# Altium schematic symbol library DC309A.SCHLIB: 110 symbols (part 2 of 3)
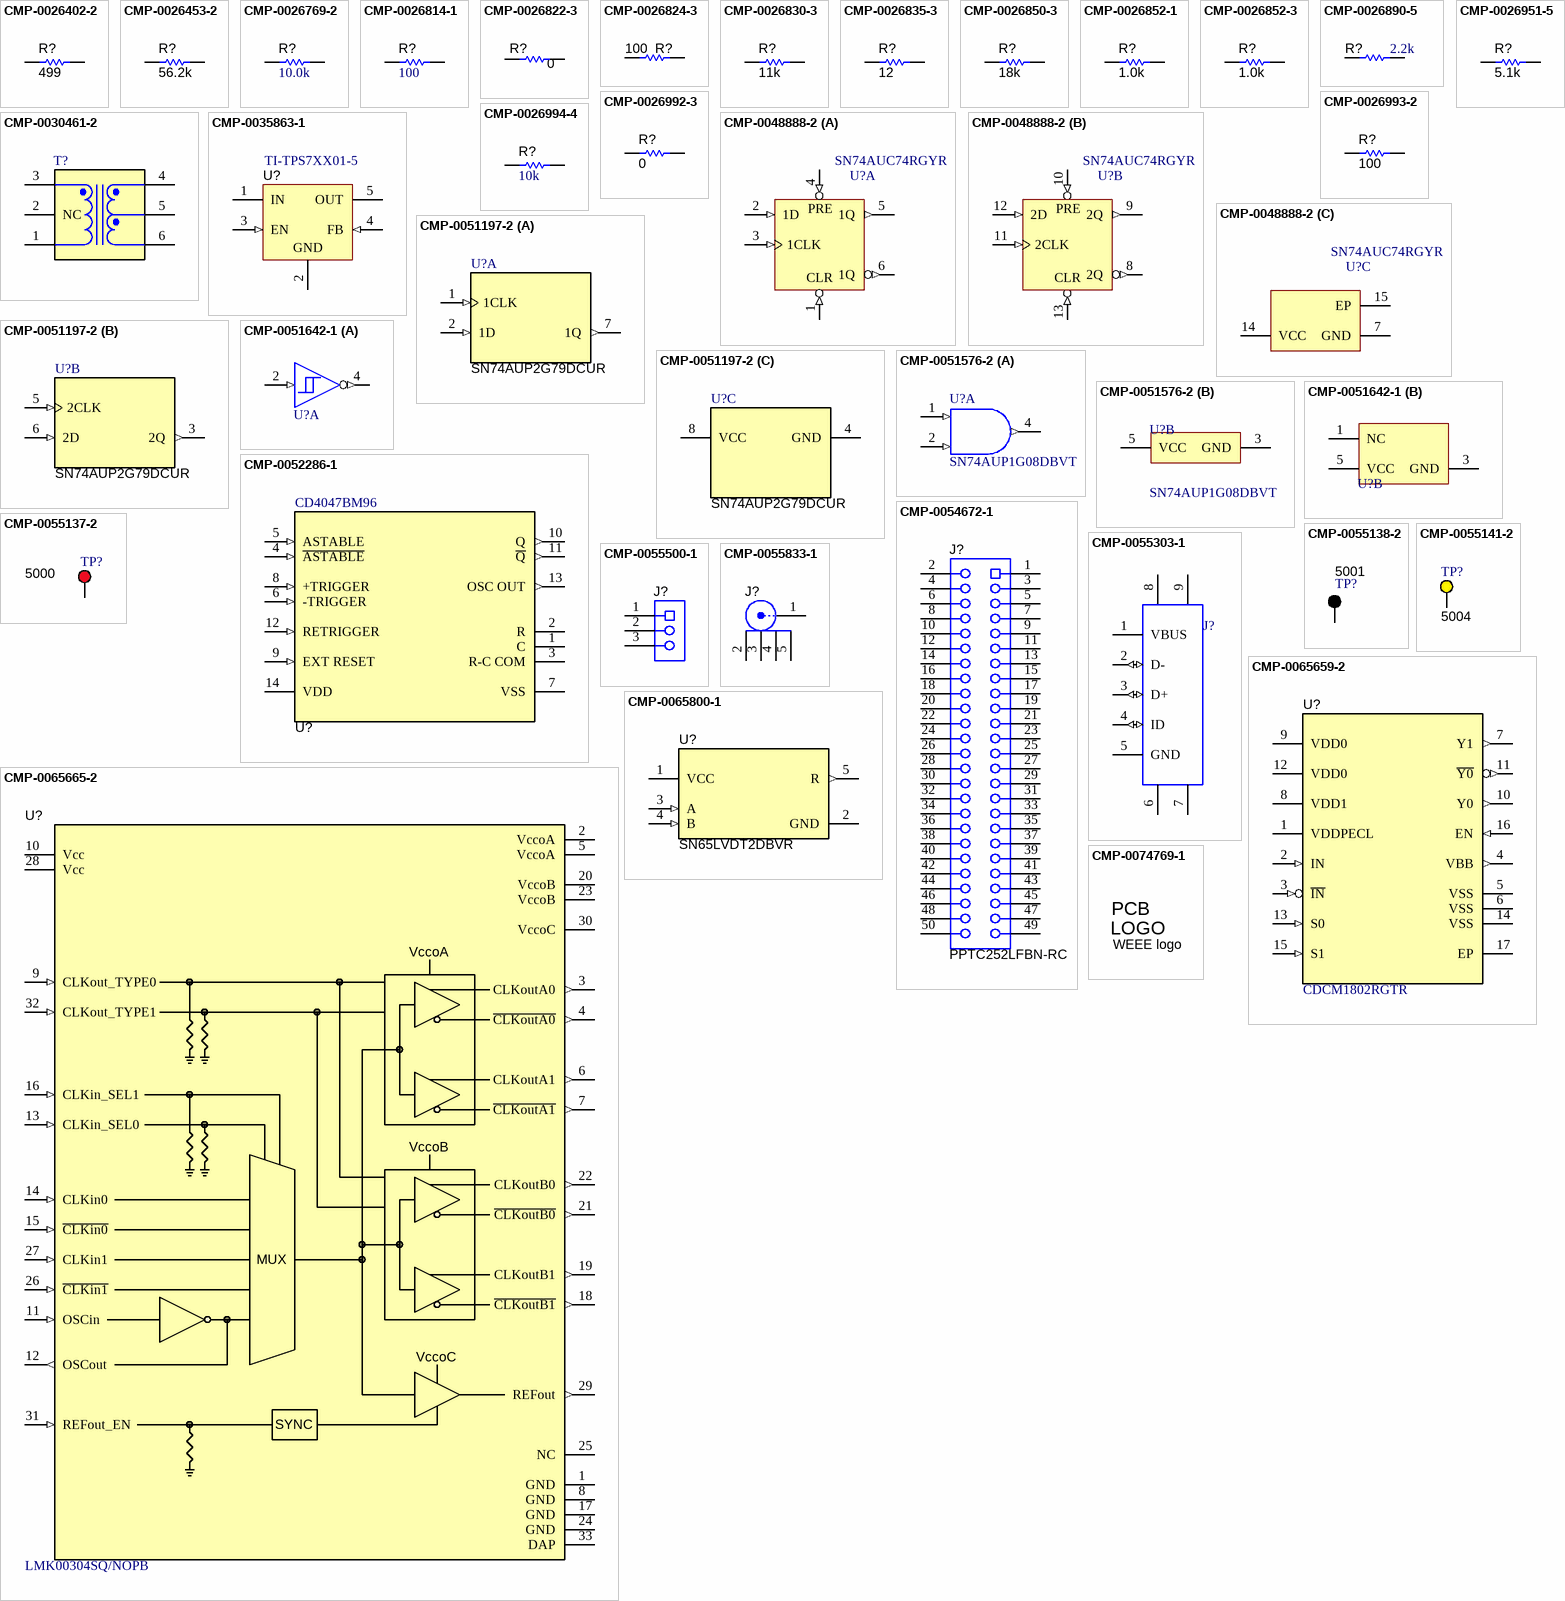
[diagram p5: symbols CMP-0026402-2 to CMP-0074769-1]

## CMP-0026850-3
designator R?, comment ValueDisplayed: 18k  (hidden comment: CRCW040218K0JNED)
RES, 18 k, 5%, 0.063 W, AEC-Q200 Grade 0, 0402; Manufacturer: Vishay-Dale; Power_W: 63mW; TempCo: 200 ppm/C; Value_Code: 18k0; Value: 18k; EIA_Code: E24; SizeX_mm: 1; SizeY_mm: 0.5; SizeZ_mm: 0.6; Value2: 0.063W; CompType: Resistor; AEC Qualified: Y; VDC_V: 50V; AEC Category: Q200; AEC Grade: 0; Supplier Part Number 2: 59M6707; Supplier 2: Newark; Supplier Part Number 3: 71-CRCW0402J-18K-E3; Supplier 3: Mouser; RoHS: E; Value1: 5%; MountType: SMT; Supplier 1: Digi-Key; PackageReference: 0402; Tolerance_%: 5%; Res_ohm: 18k; SizeArea_mm2: 0.5; PartNumber: CRCW040218K0JNED; ComponentLink1Description: Datasheet link; Supplier Part Number 1: 541-18KJCT-ND; Technology: Thick Film; ComponentLink1URL: http://www.vishay.com/docs/20035/dcrcwe3.pdf
footprint 0402 (0402 from SM-752 data)
footprint 0402S (Based on C0402S footprint from PADS legacy)
footprint 0402L (0402 from SM-752 data)
footprint 0402M (0402 from SM-752 data)
pins: 1, 2

## CMP-0026852-1
designator R?, comment ValueDisplayed: 1.0k  (hidden comment: CRCW04021K00JNED)
RES, 1.0 k, 5%, 0.063 W, 0402; Manufacturer: Vishay-Dale; Power_W: 63mW; TempCo: 200 ppm/C; Value_Code: 1k00; U/M: EA; Value: 1.0k; EIA_Code: E24; Res_ohm: 1k; SizeX_mm: 1; SizeY_mm: 0.5; SizeZ_mm: 0.6; Value2: 0.063W; CompType: Resistor; VDC_V: 50V; AEC Category: Q200; ComponentLink1URL: http://www.vishay.com/docs/20035/dcrcwe3.pdf; Supplier Part Number 2: 59M6691; Publisher: Texas Instruments; Supplier 2: Newark; Supplier Part Number 3: 71-CRCW0402J-1.0K-E3; Supplier 3: Mouser; Published: 2008-06-26; RoHS: Y; Value1: 5%; MountType: SMT; Supplier 1: Digi-Key; PackageReference: 0402; Tolerance_%: 5%; SizeArea_mm2: 0.5; LatestRevisionDate: 2017-03-09; PartNumber: CRCW04021K00JNED; AEC Qualified: ?; ComponentLink1Description: Datasheet link; Supplier Part Number 1: 541-1.0KJCT-ND; Technology: Thick Film
footprint 0402 (0402 from SM-752 data)
footprint 0402S (Based on C0402S footprint from PADS legacy)
footprint 0402L (0402 from SM-752 data)
footprint 0402M (0402 from SM-752 data)
pins: 1, 2

## CMP-0026852-3
designator R?, comment ValueDisplayed: 1.0k  (hidden comment: Resistor)
RES, 1.0 k, 5%, 0.063 W, AEC-Q200 Grade 0, 0402; PartNumber: CRCW04021K00JNED; Manufacturer: Vishay-Dale; Value: 1.0k; Res_ohm: 1k; Value_Code: 1k00; Power_W: 63mW; Value2: 0.063W; VDC_V: 50V; TempCo: 200 ppm/C; SizeArea_mm2: 0.5; SizeX_mm: 1; SizeZ_mm: 0.6; EIA_Code: E24; AEC Category: Q200; AEC Qualified: Y; AEC Grade: 0; CompType: Resistor; PackageReference: 0402; RoHS: E; Tolerance_%: 5%; Value1: 5%; MountType: SMT; Technology: Thick Film; SizeY_mm: 0.5; ComponentLink1Description: Datasheet link; ComponentLink1URL: http://www.vishay.com/docs/20035/dcrcwe3.pdf; Supplier 1: Digi-Key; Supplier Part Number 1: 541-1.0KJCT-ND; Supplier 2: Newark; Supplier Part Number 2: 59M6691; Supplier 3: Mouser; Supplier Part Number 3: 71-CRCW0402J-1.0K-E3
footprint 0402 (0402 from SM-752 data)
footprint 0402S (Based on C0402S footprint from PADS legacy)
footprint 0402L (0402 from SM-752 data)
footprint 0402M (0402 from SM-752 data)
pins: 1, 2

## CMP-0026890-5
designator R?, comment ValueDisplayed: 2.2k  (hidden comment: CRCW04022K20JNED)
RES, 2.2 k, 5%, 0.063 W, AEC-Q200 Grade 0, 0402; Manufacturer: Vishay-Dale; Power_W: 63mW; TempCo: 200 ppm/C; Value_Code: 2k20; Value: 2.2k; EIA_Code: E24; SizeX_mm: 1; SizeY_mm: 0.5; SizeZ_mm: 0.6; Value2: 0.063W; CompType: Resistor; AEC Qualified: Y; VDC_V: 50V; AEC Category: Q200; AEC Grade: 0; Supplier Part Number 2: 59M6710; Supplier 2: Newark; Supplier Part Number 3: 71-CRCW0402J-2.2K-E3; Supplier 3: Mouser; RoHS: E; Value1: 5%; MountType: SMT; Supplier 1: Digi-Key; PackageReference: 0402; Tolerance_%: 5%; Res_ohm: 2.2k; SizeArea_mm2: 0.5; PartNumber: CRCW04022K20JNED; ComponentLink1Description: Datasheet link; Supplier Part Number 1: 541-2.2KJCT-ND; Technology: Thick Film; ComponentLink1URL: http://www.vishay.com/docs/20035/dcrcwe3.pdf
footprint 0402 (0402 from SM-752 data)
footprint 0402S (Based on C0402S footprint from PADS legacy)
footprint 0402L (0402 from SM-752 data)
footprint 0402M (0402 from SM-752 data)
pins: 1, 2

## CMP-0026951-5
designator R?  ValueDisplayed: 5.1k  (hidden comment: CMP-0026951-5)
RES, 5.1 k, 5%, 0.063 W, AEC-Q200 Grade 0, 0402; PartNumber: CRCW04025K10JNED; Manufacturer: Vishay-Dale; CompType: Resistor; Value: 5.1k; Value_Code: 5k10; Power_W: 63mW; Value2: 0.063W; VDC_V: 50V; TempCo: 200 ppm/C; SizeArea_mm2: 0.5; SizeX_mm: 1; SizeZ_mm: 0.6; EIA_Code: E24; AEC Category: Q200; AEC Qualified: Y; AEC Grade: 0; PackageReference: 0402; RoHS: E; Res_ohm: 5.1k; Tolerance_%: 5%; Value1: 5%; MountType: SMT; Technology: Thick Film; SizeY_mm: 0.5; ComponentLink1Description: Datasheet link; ComponentLink1URL: http://www.vishay.com/docs/20035/dcrcwe3.pdf; Supplier 1: Digi-Key; Supplier Part Number 1: 541-5.1KJCT-ND; Supplier 2: Newark; Supplier Part Number 2: 72M6798; Supplier 3: Mouser; Supplier Part Number 3: 71-CRCW0402J-5.1K-E3
footprint 0402 (0402 from SM-752 data)
footprint 0402S (Based on C0402S footprint from PADS legacy)
footprint 0402L (0402 from SM-752 data)
footprint 0402M (0402 from SM-752 data)
pins: 1, 2

## CMP-0026992-3
designator R?, comment Res_ohm: 0  (hidden comment: Resistor)
RES, 0, 5%, 0.1 W, AEC-Q200 Grade 0, 0402; PartNumber: ERJ-2GE0R00X; Manufacturer: Panasonic; Value_Code: 0000; Power_W: 100mW; Value2: 0.1W; VDC_V: 50V; TempCo: 600 ppm/C; SizeArea_mm2: 0.5; SizeX_mm: 1; SizeZ_mm: 0.6; EIA_Code: E24; AEC Category: Q200; AEC Qualified: Y; SizeAreaWB_mm2: 3; CompType: Resistor; PackageReference: 0402; RoHS: Y; Tolerance_%: 5%; Value1: 5%; MountType: SMT; Technology: Thick Film; SizeY_mm: 0.5; ComponentLink1Description: Datasheet link; ComponentLink1URL: https://industrial.panasonic.com/cdbs/www-data/pdf/RDA0000/AOA0000C301.pdf; Supplier 1: Digi-Key; Supplier Part Number 1: P0.0JCT-ND; Supplier 2: Newark; Supplier Part Number 2: 65T8307; Supplier 3: Mouser; Supplier Part Number 3: 667-ERJ-2GE0R00X; AEC Grade: 0; ValueDisplayed: 0
footprint 0402 (0402 from SM-752 data)
footprint 0402S (Based on C0402S footprint from PADS legacy)
footprint 0402L (0402 from SM-752 data)
footprint 0402M (0402 from SM-752 data)
pins: 1, 2

## CMP-0026993-2
designator R?, comment ValueDisplayed: 100  (hidden comment: Resistor)
RES, 100, 5%, 0.1 W, AEC-Q200 Grade 0, 0402; PartNumber: ERJ-2GEJ101X; Manufacturer: Panasonic; Value: 100; Value_Code: 100R; Power_W: 100mW; Value2: 0.1W; TempCo: 200 ppm/C; SizeArea_mm2: 0.5; SizeX_mm: 1; SizeZ_mm: 0.6; EIA_Code: E24; U/M: EA; AEC Category: Q200; AEC Qualified: Y; AEC Grade: 0; CompType: Resistor; PackageReference: 0402; RoHS: Y; Res_ohm: 100; Tolerance_%: 5%; Value1: 5%; MountType: SMT; Technology: Thick Film; SizeY_mm: 0.5; Published: 2008-06-26; Publisher: Texas Instruments; LatestRevisionDate: 2017-03-09; ComponentLink1Description: Datasheet link; ComponentLink1URL: https://industrial.panasonic.com/cdbs/www-data/pdf/RDA0000/AOA0000C84.pdf; Supplier 1: Digi-Key; Supplier Part Number 1: P100JCT-ND; Supplier 2: Newark; Supplier Part Number 2: 65T8246; Supplier 3: Farnell; Supplier Part Number 3: 2059210
footprint 0402 (0402 from SM-752 data)
footprint 0402S (Based on C0402S footprint from PADS legacy)
footprint 0402L (0402 from SM-752 data)
footprint 0402M (0402 from SM-752 data)
pins: 1, 2

## CMP-0026994-4
designator R?, comment ValueDisplayed: 10k  (hidden comment: ERJ-2GEJ103X)
RES, 10 k, 5%, 0.1 W, AEC-Q200 Grade 0, 0402; Manufacturer: Panasonic; Power_W: 100mW; TempCo: 200 ppm/C; Value_Code: 10k0; U/M: EA; Value: 10k; EIA_Code: E24; SizeX_mm: 1; SizeY_mm: 0.5; SizeZ_mm: 0.6; Value2: 0.1W; CompType: Resistor; AEC Qualified: Y; VDC_V: 50V; AEC Grade: 0; AEC Category: Q200; ComponentLink1URL: http://industrial.panasonic.com/lecs/www-data/pdf/AOA0000/AOA0000CE2.pdf; Supplier Part Number 2: 65T8248; Publisher: Texas Instruments; Supplier 2: Newark; Supplier Part Number 3: 667-ERJ-2GEJ103X; Supplier 3: Mouser; Published: 2008-06-26; RoHS: Y; Value1: 5%; MountType: SMT; Supplier 1: Digi-Key; PackageReference: 0402; Tolerance_%: 5%; Res_ohm: 10k; SizeArea_mm2: 0.5; LatestRevisionDate: 2017-03-09; PartNumber: ERJ-2GEJ103X; ComponentLink1Description: Datasheet link; Supplier Part Number 1: P10KJCT-ND; Technology: Thick Film
footprint 0402 (0402 from SM-752 data)
footprint 0402S (Based on C0402S footprint from PADS legacy)
footprint 0402L (0402 from SM-752 data)
footprint 0402M (0402 from SM-752 data)
pins: 1, 2

## CMP-0030461-2
designator T?, comment MNC_ADT4-1WT+  (value not drawn)
RF Transformer, 50 ohm, 2 to 775 MHz, SMT; Manufacturer: Minicircuits; Green_Lifecycle: Not Set; Green_REACh: Incomplete; PartNumber: ADT4-1WT+; MountType: SMT; PackageReference: CD542; RoHS: Y; ComponentLink1URL: http://www.minicircuits.com/pdfs/ADT4-1WT.pdf; ComponentLink1Description: Datasheet URL; CompType: Transformer; Publisher: Texas Instruments; LatestRevisionDate: 2017-05-09; Green_EU RoHS-2: Incomplete; Green_EU RoHS: Incomplete
footprint MNC_CD542 (Mini-Circuits recommended land pattern 98-CD.doc rev K 11/06/06)
pins: 1 (power), 2 NC, 3 (power), 4 (power), 5 (power), 6 (power)
1 alternate drawing of the same symbol

## CMP-0035863-1
designator U?, comment TI-TPS7XX01-5
Single Output High PSRR LDO, 200 mA, Adjustable 1.2 to 6.5 V Output, 2.7 to 6.5 V Input, with Low IQ, 5-pin SOT (DDC), -40 to 85 degC, Green (RoHS & no Sb/Br); Manufacturer: Texas Instruments; PartNumber: TPS79901DDCR; Accuracy(%): 2; Iout(Max)(A): 0.2; Iq(Typ)(mA): 0.04; Rating: Catalog; SubFamily: Single Channel LDO; Vdo(Typ)(mV): 90; Vin(Max)(V): 6.5; Vin(Min)(V): 2.7; Vout Adj(Min)(V): 1.2; DatasheetVersion: SBVS056J; PackageVersion: 4204403-2/E; PackageReference: DDC0005A; PackageDescription: 5-Pin Plastic Small Outline, Body 2.9 x 1.6 mm, 0.95 mm Pitch; Eco-Plan: Green (RoHS & no Sb/Br); Vout Adj(Max)(V): 6.5; Code_JEDEC: MO-193; ComponentLink1Description: Manufacturer URL; ComponentLink1URL: http://www.ti.com/; ComponentLink2Description: Datasheet; ComponentLink2URL: http://www.ti.com/general/docs/lit/getliterature.tsp?genericPartNumber=TPS79901&fileType=pdf; ComponentLink3Description: Package Specification; ComponentLink3URL: http://www.ti.com/litv/pdf/mpds123d; ComponentLink4Description: URL Link1; ComponentLink4URL: Samples URL:http://www.ti.com/product/tps79901#samples; Mounting Technology: Surface Mount
footprint DDC0005A_N
pins: 1 IN (power) "Input pin. A small capacitor is needed from this pin to ground to assure stability. Typical input capacitor = 1.0uF. Both input and output capacitor grounds should be tied back to the IC ground with no significant impedance (See Datasheet)", 2 GND (power) "Ground pin.", 3 EN (in) "Driving the enable pin (EN) over 1.2V turns on the regulator. Driving this pin below 0.4V puts the regulator into shutdown mode, reducing operating current to 18nA typical.", 4 FB (in) "Feedback pin (FB) for adjustable versions", 5 OUT (power) "Regulated output voltage pin. A small 1-uF ceramic capacitor is needed from this pin to ground to assure stability.See Input and Output Capacitor Requirements in the Application Information section for more details."

## CMP-0048888-2
designator U?, comment SN74AUC74RGYR
Dual Positive-Edge-Triggered D-Type Flip-Flops with Clear and Preset, RGY0014A, LARGE T&R; Manufacturer: Texas Instruments; Output Type: CMOS; Bits(#): 2; Technology Family: AUC; Schmitt Trigger: No; VCC(Max)(V): 2.7; Rating: Catalog; Output Drive (IOL/IOH)(Max)(mA): 9/-9; ICC @ Nom Voltage(Max)(mA): 0.01; VCC(Min)(V): 0.8; F @ Nom Voltage(Max)(Mhz): 250; Voltage(Nom)(V): 0.8,1.2,1.5,1.8,2.5; tpd @ Nom Voltage(Max)(ns): 9.5,4,2.5,2.1,1.4; Output Logic: Inverted,Non-inverted; Input Type: CMOS; Code_JEDEC: MO-241; 3-State Output: No; Operating Temperature Range(C): -40 to 85; PackageReference: RGY0014A; DatasheetVersion: SCES483A; Generic Part Number: SN74AUC74; PartNumber: SN74AUC74RGYR; PartId: 1
footprint RGY0014A (QFN, 14-Leads, Body 3.5x3.5mm, Pitch 0.5mm, Thermal Pad 2.05x2.05mm, TI Recommended)
part A pins: 1 1~{CLR} (in), 2 1D (in), 3 1CLK (in), 4 1~{PRE} (in), 5 1Q (out), 6 1Q (out)
part B pins: 8 2Q (out), 9 2Q (out), 10 2~{PRE} (in), 11 2CLK (in), 12 2D (in), 13 2~{CLR} (in)
part C pins: 7 GND (power), 14 VCC (power) "Supply voltage input", 15 EP
part A text: PRE; CLR
part B text: PRE; CLR

## CMP-0051197-2
designator U?, comment SN74AUP2G79DCUR
Low-Power Dual Positive-Edge-Triggered D-Type Flip-Flop, DCU0008A (VSSOP-8); Manufacturer: Texas Instruments; ICC @ Nom Voltage(Max)(mA): 0.0009; 3-State Output: No; Input Type: CMOS; Rating: Catalog; Output Drive (IOL/IOH)(Max)(mA): 20/-20; VCC(Max)(V): 3.6; Bits(#): 2; Technology Family: AUP; Logic: True; Voltage(Nom)(V): 0.8,1.2,1.5,1.8,2.5,3.3; VCC(Min)(V): 0.8; tpd @ Nom Voltage(Max)(ns): 27.2,17.3,13.3,11.3,7.8,6.3; F @ Nom Voltage(Max)(Mhz): 100; AEC Category: Q200; AEC Qualified: N; CompType: IC; SizeAreaWB_mm2: 12.6; SizeArea_mm2: 6.4; SizeX_mm: 3.2; SizeY_mm: 2.0; SizeZ_mm: 0.9; Generic Part Number: SN74AUP2G79; PackageReference: DCU0008A; Schmitt Trigger: No; Output Type: CMOS; ComponentLink1Description: Datasheet Link; ComponentLink1URL: http://www.ti.com/lit/ds/symlink/sn74aup2g79.pdf; ComponentLink2Description: Product Folder; ComponentLink2URL: http://www.ti.com/product/sn74aup2g79; ComponentLink3Description: Online Datasheet; ComponentLink3URL: http://www.ti.com/product/sn74aup2g79/datasheet; MountType: SMT; Operating Temperature Range: -40 to 85 C; PackageDescription: VSSOP-8; PartNumber: SN74AUP2G79DCUR; PartId: 2
footprint DCU0008A_N (TSSOP, 8-Leads, Body 2x2.3mm, Pitch 0.5mm, IPC Medium Density)
footprint DCU0008A_M (TSSOP, 8-Leads, Body 2x2.3mm, Pitch 0.5mm, IPC Low Density)
footprint DCU0008A_L (TSSOP, 8-Leads, Body 2x2.3mm, Pitch 0.5mm, IPC High Density)
part A pins: 1 1CLK (in), 2 1D (in), 7 1Q (out)
part B pins: 3 2Q (out), 5 2CLK (in), 6 2D (in)
part C pins: 4 GND (power), 8 VCC (power)

## CMP-0051576-2
designator U?, comment SN74AUP1G08DBVT
Low-Power Single 2-Input Positive-AND Gate, DBV0005A (SOT-23-5); Manufacturer: Texas Instruments; 3-State Output: No; Output Type: CMOS; F @ Nom Voltage(Max)(Mhz): 100; Rating: Catalog; Voltage(Nom)(V): 0.8,1.2,1.5,1.8,2.5,3.3; Logic: True; Output Drive (IOL/IOH)(Max)(mA): 20/-20; tpd @ Nom Voltage(Max)(ns): 32.8,20.9,14.2,11,7.6,6.2; Bits(#): 1; ICC @ Nom Voltage(Max)(mA): 0.0009; Gate Type: AND; VCC(Max)(V): 3.6; VCC(Min)(V): 0.8; AEC Category: Q200; AEC Qualified: N; CompType: IC; SizeAreaWB_mm2: 14.82; SizeArea_mm2: 8.12; SizeX_mm: 2.8; SizeY_mm: 2.9; SizeZ_mm: 1.45; PackageReference: DBV0005A; Generic Part Number: SN74AUP1G08; Input Type: CMOS; Schmitt Trigger: No; ComponentLink1Description: Datasheet Link; ComponentLink1URL: http://www.ti.com/lit/ds/symlink/sn74aup1g08.pdf; ComponentLink2Description: Product Folder; ComponentLink2URL: http://www.ti.com/product/sn74aup1g08; ComponentLink3Description: Online Datasheet; ComponentLink3URL: http://www.ti.com/product/sn74aup1g08/datasheet; MountType: SMT; Operating Temperature Range: -40 to 85 C; PackageDescription: SOT-23-5; PartNumber: SN74AUP1G08DBVT; PartId: 1
footprint DBV0005A_N (SOT23, 5-Leads, Body 2.9x1.6mm, Pitch 0.95mm, Lead Span 2.8mm, IPC Medium Density)
footprint DBV0005A_M (SOT23, 5-Leads, Body 2.9x1.6mm, Pitch 0.95mm, Lead Span 2.8mm, IPC Low Density)
footprint DBV0005A_L (SOT23, 5-Leads, Body 2.9x1.6mm, Pitch 0.95mm, Lead Span 2.8mm, IPC High Density)
part A pins: 1 A (in) "Input A", 2 B (in) "Input B", 4 Y (out) "Output Y"
part B pins: 3 GND (power) "Ground Pin", 5 VCC (power) "Power Pin"

## CMP-0051642-1
designator U?, comment SN74LVC1G14DBVR  (value not drawn)
Single Schmitt-Trigger Inverter, DBV0005A, LARGE T&R; Manufacturer: Texas Instruments; Input Type: CMOS/TTL; Output Drive (IOL/IOH)(Max)(mA): 32/-32; VCC(Min)(V): 1.65; 3-State Output: No; Schmitt Trigger: Yes; tpd @ Nom Voltage(Max)(ns): 11,6.5,5.5,5; VCC(Max)(V): 5.5; Output Type: CMOS; Bits(#): 1; Voltage(Nom)(V): 1.8,2.5,3.3,5; Sub-Family: Inverting Buffer/Driver; Logic: Inverting; Technology Family: LVC; F @ Nom Voltage(Max)(Mhz): 150; Rating: Catalog; ICC @ Nom Voltage(Max)(mA): 0.01; DatasheetVersion: SCES218W; PackageReference: DBV0005A; Generic Part Number: SN74LVC1G14; Operating Temperature Range(C): -40 to 125,-40 to 85; PartId: 1
footprint DBV0005A_N (SOT23, 5-Leads, Body 2.9x1.6mm, Pitch 0.95mm, Lead Span 2.8mm, IPC Medium Density)
footprint DBV0005A_M (SOT23, 5-Leads, Body 2.9x1.6mm, Pitch 0.95mm, Lead Span 2.8mm, IPC Low Density)
footprint DBV0005A_L (SOT23, 5-Leads, Body 2.9x1.6mm, Pitch 0.95mm, Lead Span 2.8mm, IPC High Density)
part A pins: 2 A (in) "Input A", 4 Y (out) "Output Y"
part B pins: 1 NC "Ground", 3 GND (power) "Ground Pin", 5 VCC (power) "Power Pin"

## CMP-0052286-1
designator U?, comment CD4047BM96
CMOS Low-Power Monostable/Astable Multivibrator, D0014A, LARGE T&R; Manufacturer: Texas Instruments; VCC(Max)(V): 18; F @ Nom Voltage(Max)(Mhz): 8; tpd @ Nom Voltage(Max)(ns): 450; Rating: Military; Technology Family: CD4000; Output Drive (IOL/IOH)(Max)(mA): 4/-4; Bits(#): 1; VCC(Min)(V): 3; ICC @ Nom Voltage(Max)(mA): 0.06; Voltage(Nom)(V): 10; Generic Part Number: CD4047B; DatasheetVersion: SCHS044C; Output Type: CMOS; Code_JEDEC: MS-012; Input Type: CMOS; Operating Temperature Range(C): -55 to 125; PackageReference: D0014A
footprint D0014A_N (SOIC, 14-Leads, Body 8.7x3.9mm, Pitch 1.27mm, IPC Medium Density)
footprint D0014A_M (SOIC, 14-Leads, Body 8.7x3.9mm, Pitch 1.27mm, IPC Low Density)
footprint D0014A_L (SOIC, 14-Leads, Body 8.7x3.9mm, Pitch 1.27mm, IPC High Density)
pins: 1 C, 2 R, 3 R-C COM, 4 ~{ASTABLE} (in), 5 ASTABLE (in), 6 -TRIGGER (in), 7 VSS (power), 8 +TRIGGER (in), 9 EXT RESET (in), 10 Q (out), 11 ~{Q} (out), 12 RETRIGGER (in), 13 OSC OUT (out), 14 VDD (power)

## CMP-0054672-1
designator J?, comment PPTC252LFBN-RC
Receptacle, 2.54mm, 25x2, Tin, TH; Manufacturer: Sullins Connector Solutions; CNHeader: FALSE; Current_A: 3A; Gender: Female; Voltage_V: 250V; CompType: Socket Strip; Row_Count: 2; RowSpacing_mm: 2.54; CT: TRUE; Cert_UL: Y; ComponentLink1URL: http://www.sullinscorp.com/drawings/78_P(N)PxCxxxLFBN-RC,_10492-H.pdf; Publisher: Texas Instruments; Color: Black; RoHS: Y; MountType: TH; Supplier 1: Digi-Key; PackageReference: Receptacle, 2.54mm, 25x2, TH; PinCount: 50; LatestRevisionDate: 26/05/2017; PartNumber: PPTC252LFBN-RC; Orientation: Vertical; ComponentLink1Description: Datasheet URL; Supplier Part Number 1: S7093-ND; Pitch_mm: 2.54; ContactFinish: Tin
footprint Sullins_xPxC252LFBN (Receptacle, 2.54mm, 25x2, TH)
pins: 1, 2, 3, 4, 5, 6, 7, 8, 9, 10, 11, 12, 13, 14, 15, 16, 17, 18, 19, 20, 21, 22, 23, 24, 25, 26, 27, 28, 29, 30, 31, 32, 33, 34, 35, 36, 37, 38, 39, 40, 41, 42, 43, 44, 45, 46, 47, 48, 49, 50

## CMP-0055137-2
designator TP?, comment 5000
Test Point, Miniature, Red, TH; Manufacturer: Keystone Electronics; ContactFinish: Silver; CNHeader: FALSE; CT: TRUE; Green_Lifecycle: Active; Green_REACh: Passed; PackageReference: Red Miniature Testpoint; CompType: Test Point; Publisher: Texas Instruments; LatestRevisionDate: 26/05/2017; PartNumber: 5000; RoHS: Y; MountType: TH; ComponentLink1Description: Datasheet URL; ComponentLink1URL: http://www.keyelco.com/userAssets/file/M60-2p60.pdf; Color: Red; Supplier 1: Digi-Key; Supplier Part Number 1: 36-5000-ND; Supplier 2: Mouser; Supplier Part Number 2: 534-5000; Green_EU RoHS-2: Incomplete; Green_EU RoHS: Passed
footprint Keystone5000 (For Keystone 500x miniature loop terminals)
pins: 1

## CMP-0055138-2
designator TP?, comment 5001
Test Point, Miniature, Black, TH; Manufacturer: Keystone Electronics; ContactFinish: Silver; CNHeader: FALSE; CT: TRUE; Green_Lifecycle: Active; Green_REACh: Passed; PartNumber: 5001; PackageReference: Black Miniature Testpoint; CompType: Test Point; RoHS: Y; MountType: TH; ComponentLink1Description: Datasheet URL; ComponentLink1URL: http://www.keyelco.com/userAssets/file/M60-2p60.pdf; Color: Black; Publisher: Texas Instruments; LatestRevisionDate: 26/05/2017; Supplier 1: Digi-Key; Supplier Part Number 1: 36-5001-ND; Supplier 2: Mouser; Supplier Part Number 2: 534-5001; Green_EU RoHS-2: Incomplete; Green_EU RoHS: Passed
footprint Keystone5001 (For Keystone 500x miniature loop terminals)
pins: 1

## CMP-0055141-2
designator TP?, comment 5004
Test Point, Miniature, Yellow, TH; Manufacturer: Keystone Electronics; CT: TRUE; ContactFinish: Silver; Green_Lifecycle: Active; CNHeader: FALSE; Green_REACh: Passed; Supplier 2: Mouser; RoHS: Y; Publisher: Texas Instruments; PackageReference: Yellow Miniature Testpoint; CompType: Test Point; Green_EU RoHS: Passed; Color: Yellow; PartNumber: 5004; Green_EU RoHS-2: Incomplete; LatestRevisionDate: 26/05/2017; Supplier 1: Digi-Key; Supplier Part Number 1: 36-5004-ND; Supplier Part Number 2: 534-5004; MountType: TH; ComponentLink1URL: http://www.keyelco.com/userAssets/file/M60-2p60.pdf; ComponentLink1Description: Datasheet URL
footprint Keystone5004 (For Keystone 500x miniature loop terminals)
pins: 1

## CMP-0055303-1
designator J?, comment CONN_USB_MINI-AB_4Shld  (value not drawn)
Connector, Receptacle, USB - mini AB, R/A, SMD; PartNumber: 67803-8020; Manufacturer: Molex; CNHeader: FALSE; CT: TRUE; Gender: Female; PackageReference: Receptacle, 5-Leads, Body 9.9x9mm, R/A; CompType: USB; RoHS: Y; MountType: SMT; ComponentLink1Description: Datasheet URL; ComponentLink1URL: http://www.molex.com/pdm_docs/sd/678038020_sd.pdf; Publisher: Texas Instruments; LatestRevisionDate: 26/05/2017; Supplier 1: Digi-Key; Supplier Part Number 1: WM17148CT-ND; Supplier 2: Newark; Supplier Part Number 2: 06X9412; Supplier 3: Mouser; Supplier Part Number 3: 538-67803-8020
footprint Molex_67803-8020 (SMD, 5-Leads, Body 9.9x9mm, R/A)
pins: 1 VBUS, 2 D- (io), 3 D+ (io), 4 ID (io), 5 GND, 6, 7, 8 (power), 9 (power)

## CMP-0055500-1
designator J?, comment 1725669  (value not drawn)
Terminal Block, 3x1, 2.54 mm, TH; Manufacturer: Phoenix Contact; CNHeader: FALSE; Green_Lifecycle: Not Set; Green_REACh: Incomplete; CT: TRUE; ComponentLink1URL: https://www.phoenixcontact.com/online/portal/us?uri=pxc-oc-itemdetail:pid=1725669&library=usen&tab=1; Supplier Part Number 2: 71C4108; Publisher: Texas Instruments; Supplier 2: Newark; Supplier Part Number 3: 651-1725669; Supplier 3: Mouser; RoHS: Y; MountType: TH; Green_EU RoHS-2: Incomplete; Supplier 1: Digi-Key; Green_EU RoHS: Incomplete; PackageReference: Terminal Block, 3x1, 2.54 mm, TH; CompType: Terminal Block; LatestRevisionDate: 26/05/2017; PartNumber: 1725669; ComponentLink1Description: Datasheet URL; Supplier Part Number 1: 277-1274-ND
footprint Phoenix_1725669 (Terminal Block, 3x1, 2.54 mm, TH)
pins: 1, 2, 3

## CMP-0055833-1
designator J?, comment 901-144-8RFX  (value not drawn)
SMA Straight Jack, Gold, 50 Ohm, TH; Manufacturer: Amphenol RF; CNHeader: FALSE; Green_Lifecycle: Not Set; Green_REACh: Incomplete; CT: TRUE; ComponentLink1URL: http://www.amphenolinfocom.eu/NavData/Drawings/C901-144-8RFX.pdf; Supplier Part Number 2: 34C8151; Publisher: Texas Instruments; Supplier 2: Newark; Supplier Part Number 3: 523-901-144-8RFX; Supplier 3: Mouser; RoHS: Y; MountType: TH; Green_EU RoHS-2: Incomplete; Supplier 1: Digi-Key; Green_EU RoHS: Incomplete; PackageReference: SMA Straight Jack, TH; CompType: SMA; LatestRevisionDate: 26/05/2017; PartNumber: 901-144-8RFX; ComponentLink1Description: Datasheet URL; Supplier Part Number 1: ARFX1231-ND
footprint AMPHENOL_901-144-8RFX (SMA Straight Jack, TH)
pins: 1, 2, 3, 4, 5

## CMP-0065659-2
designator U?, comment CDCM1802RGTR
Clock Buffer w/Programmable Divider, LVPECL I/O + addl LVCMOS output, RGT0016A (VQFN-16); Alternate PartNumber: CDCM1802RGTT; Alternate Manufacturer: Texas Instruments; SizeAreaWB_mm2: 25.0; U/M: EA; SizeZ_mm: 1.0; SizeX_mm: 4.0; SizeArea_mm2: 16.0; CompType: IC; ComponentLink1URL: http://www.ti.com/lit/ds/symlink/cdcm1802.pdf; Publisher: Texas Instruments; PackageDescription: VQFN-16; RoHS: Y; MountType: SMT; Manufacturer: Texas Instruments; PackageReference: RGT0016A; SizeY_mm: 4.0; LatestRevisionDate: 2017-06-09; PartNumber: CDCM1802RGTR; ComponentLink1Description: Datasheet Link
footprint RGT0016A (QFN, 16-Leads, Body 3x3mm, Pitch 0.5mm, Thermal Pad 1.45x1.45mm, TI Recommended)
footprint RGT0016A_NV (QFN, 16-Leads, Body 3x3mm, Pitch 0.5mm, Thermal Pad 1.45x1.45mm, TI Recommended)
pins: 1 VDDPECL (power), 2 IN (in), 3 ~{IN} (in), 4 VBB (out), 5 VSS (power), 6 VSS (power), 7 Y1 (out), 8 VDD1 (power), 9 VDD0 (power), 10 Y0 (out), 11 ~{Y0} (out), 12 VDD0 (power), 13 S0 (in), 14 VSS (power), 15 S1 (in), 16 EN (in), 17 EP (power)
1 alternate drawing of the same symbol

## CMP-0065665-2
designator U?, comment LMK00304SQ/NOPB
3.1-GHz Differential Clock Buffer/Level Translator, RTV0032A (WQFN-32); Alternate Manufacturer: Texas Instruments; SizeAreaWB_mm2: 49.0; SizeArea_mm2: 25.0; SizeX_mm: 5.0; Green_REACh: Passed; SizeZ_mm: 0.8; AEC Category: Q200; Green_Lifecycle: Active; CompType: IC; AEC Qualified: N; ComponentLink1Description: Datasheet Link; ComponentLink2URL: http://www.ti.com/product/lmk00304; PartNumber: LMK00304SQ/NOPB; ComponentLink3Description: Online Datasheet; ComponentLink1URL: http://www.ti.com/lit/ds/symlink/lmk00304.pdf; PackageReference: RTV0032A; ComponentLink2Description: Product Folder; Green_EU RoHS-2: Passed; RoHS: Y; Green_EU RoHS: Passed; ComponentLink3URL: http://www.ti.com/product/lmk00304/datasheet; PackageDescription: WQFN-32; Operating Temperature Range: -40 to 85 C; SizeY_mm: 5.0; Manufacturer: Texas Instruments; MountType: SMT
footprint RTV0032A (WQFN-32)
pins: 1 GND (power), 2 VccoA (power), 3 CLKoutA0 (out), 4 ~{CLKoutA0} (out), 5 VccoA (power), 6 CLKoutA1 (out), 7 ~{CLKoutA1} (out), 8 GND (power), 9 CLKout_TYPE0 (in), 10 Vcc (power), 11 OSCin (in), 12 OSCout (out), 13 CLKin_SEL0 (in), 14 CLKin0 (in), 15 ~{CLKin0} (in), 16 CLKin_SEL1 (in), 17 GND (power), 18 ~{CLKoutB1} (out), 19 CLKoutB1 (out), 20 VccoB (power), 21 ~{CLKoutB0} (out), 22 CLKoutB0 (out), 23 VccoB (power), 24 GND (power), 25 NC, 26 ~{CLKin1} (in), 27 CLKin1 (in), 28 Vcc (power), 29 REFout (out), 30 VccoC (power), 31 REFout_EN (in), 32 CLKout_TYPE1 (in), 33 DAP (power)
1 alternate drawing of the same symbol
text: MUX; SYNC

## CMP-0065800-1
designator U?, comment SN65LVDT2DBVR
Single LVDS Receiver, DBV0005A (SOT-23-5); Alternate PartNumber: SN65LVDT2DBVT; Alternate Manufacturer: Texas Instruments; SizeAreaWB_mm2: 14.82; U/M: EA; SizeZ_mm: 1.45; SizeX_mm: 2.8; SizeY_mm: 2.9; SizeArea_mm2: 8.12; CompType: IC; ComponentLink1URL: http://www.ti.com/lit/ds/symlink/sn65lvds1.pdf; Publisher: Texas Instruments; PackageDescription: SOT-23-5; RoHS: Y; Footprint Path 6: C:\AltiumLibraries\Footprints\TI\.PcbLib; MountType: SMT; Manufacturer: Texas Instruments; PackageReference: DBV0005A; LatestRevisionDate: 2017-06-09; PartNumber: SN65LVDT2DBVR; ComponentLink1Description: Datasheet Link
footprint DBV0005A_N (SOT23, 5-Leads, Body 2.9x1.6mm, Pitch 0.95mm, Lead Span 2.8mm, IPC Medium Density)
footprint DBV0005A_L (SOT23, 5-Leads, Body 2.9x1.6mm, Pitch 0.95mm, Lead Span 2.8mm, IPC High Density)
footprint DBV0005A_M (SOT23, 5-Leads, Body 2.9x1.6mm, Pitch 0.95mm, Lead Span 2.8mm, IPC Low Density)
pins: 1 VCC, 2 GND (power), 3 A (in), 4 B (in), 5 R (out)

## CMP-0074769-1
designator Logo?, comment WEEE logo  (no BOM)
Library Reference: WEEE logo; Lib Reference: WEEE logo; PartNumber: WEEE logo
footprint WEEE_Minimum (WEEElie bin)
text: PCB; LOGO

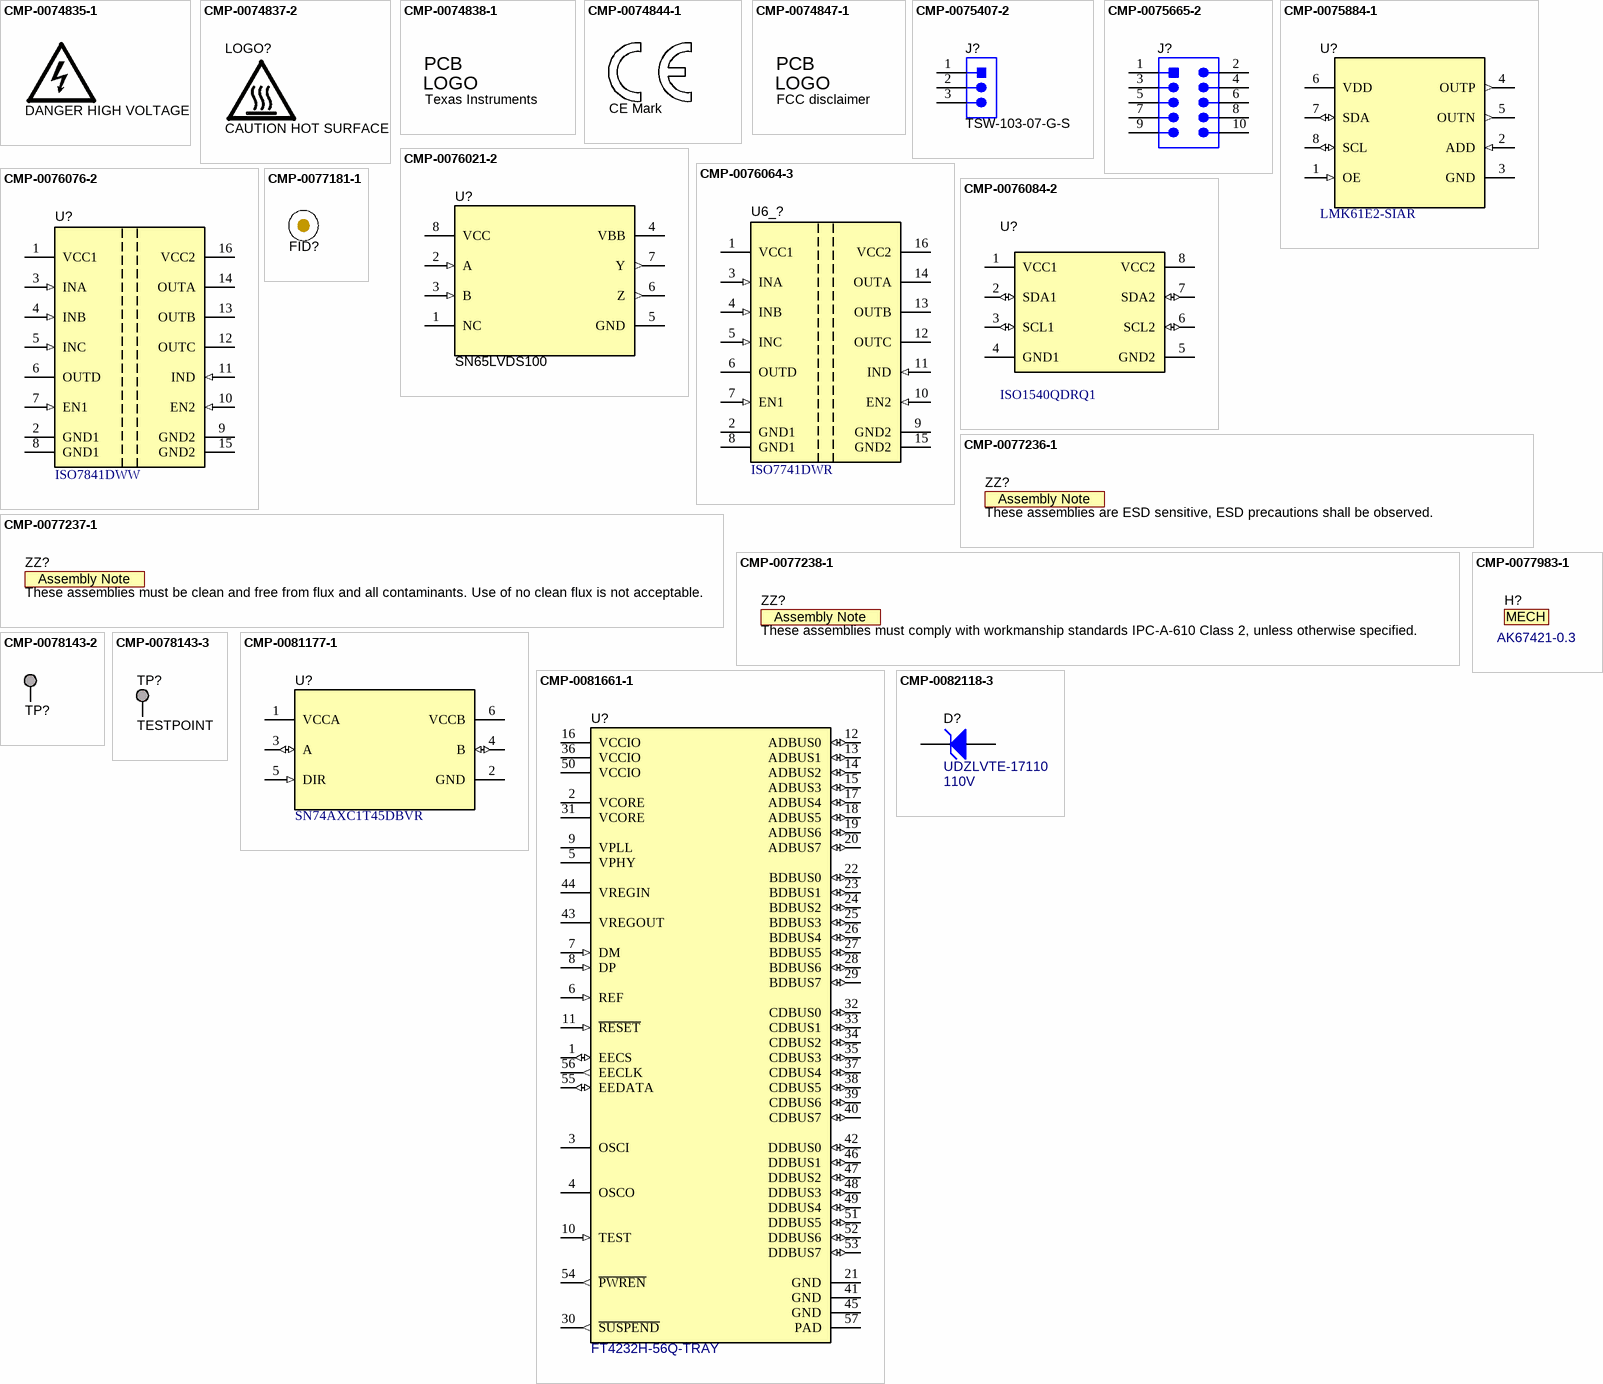
[diagram p2: symbols CMP-0074835-1 to CMP-0082118-3]

## CMP-0074835-1
designator LOGO?, comment DANGER HIGH VOLTAGE  (no BOM)
IEC 61010-1 High Voltage Warning; Library Reference: IEC_HighVoltage; SymbolCreator: a0412235; Publisher: Texas Instruments; SymbolVersion: 2011-08-22; Published: 2009-03-03; Lib Reference: IEC_HighVoltage; LatestRevisionDate: 2017-07-06; PartNumber: DANGER HIGH VOLTAGE
footprint IEC_HighVoltage_Large
footprint IEC_HighVoltage_Small
footprint IEC_HighVoltage_Medium

## CMP-0074837-2
designator LOGO?, comment CAUTION HOT SURFACE  (no BOM)
IEC 61010-1 Hot Surface Warning; Manufacturer: Texas Instruments; Library Reference: IEC_HotSurface; SymbolCreator: a0412235; AEC Category: Q200; CompType: IC; Publisher: Texas Instruments; SymbolVersion: 2011-08-22; Published: 2009-03-03; Lib Reference: IEC_HotSurface; LatestRevisionDate: 2017-07-06; PartNumber: CAUTION HOT SURFACE; ComponentLink1Description: Datasheet Link; ComponentLink1URL: http://www.ti.com/lit/ds/symlink/GPN.pdf; ComponentLink2Description: Product Folder; ComponentLink2URL: http://www.ti.com/product/GPN; ComponentLink3Description: Online Datasheet; ComponentLink3URL: http://www.ti.com/product/GPN/datasheet
footprint IEC_HotSurface_Large
footprint IEC_HotSurface_Small
footprint IEC_HotSurface_Medium

## CMP-0074838-1
designator Logo?, comment Texas Instruments  (no BOM)
Texas Instrument Corporate Signature; SymbolCreator: a0412235; Lib Reference: TI_Logo; Library Reference: Logo; SymbolVersion: 2011-08-22; Published: 2009-03-03; Publisher: Texas Instruments; ClassName: Logo; LatestRevisionDate: 2017-07-06; PartNumber: Texas Instruments
footprint TI_Horizontal_Overlay_Medium
footprint TI_Horizontal_Overlay_Small
footprint TI_Stacked_SolderMask_Small
footprint TI_Stacked_SolderMask_Small_Vertical
footprint TI_Symbol_Overlay_Medium
footprint TI_Symbol_Overlay_Small
footprint TI_Symbol_SolderMask_Medium
footprint TI_Symbol_SolderMask_Small
footprint TI_Horizontal_SolderMask_Medium
footprint TI_Horizontal_SolderMask_Small
footprint TI_Stacked_Overlay_Medium
footprint TI_Stacked_Overlay_Medium_Vertical
footprint TI_Stacked_Overlay_Small
footprint TI_Stacked_Overlay_Small_Vertical
footprint TI_Stacked_SolderMask_Medium
footprint TI_Stacked_SolderMask_Medium_Vertical
text: PCB; LOGO

## CMP-0074844-1
designator Logo?, comment CE Mark  (no BOM)
SymbolCreator: a0412235; Published: 2009-03-03; Publisher: Texas Instruments; LatestRevisionDate: 2017-07-06; Lib Reference: CE Mark; PartNumber: CE Mark; Library Reference: CE Mark
footprint CE_Mark_5mm (Minimum text height for CE Mark)
footprint CE_Mark_10mm (Double the minimum text height for CE Mark)

## CMP-0074847-1
designator Logo?, comment FCC disclaimer  (no BOM)
FCC_disclaimer; Library Reference: Logo; Published: 2009-03-03; Publisher: Texas Instruments; LatestRevisionDate: 2017-07-06; Lib Reference: FCC_disclaimer; PartNumber: FCC disclaimer
footprint FCC_disclaimer
footprint FCC_disclaimer_stacked
text: PCB; LOGO

## CMP-0075407-2
designator J?, comment TSW-103-07-G-S
Header, 100mil, 3x1, Gold, TH; Manufacturer: Samtec; Pitch_mm: 2.54; Cert_VDE: N; Gender: Male; Cert_CSA: Y; Voltage_V: 550V; Green_REACh: Passed; Current_A: 6.3A; Green_Lifecycle: Active; Row_Count: 1; ComponentLink1Description: Datasheet URL; RoHS: Y; Supplier 1: Digi-Key; Cert_UL: Y; Orientation: Vertical; Green_EU RoHS: Passed; PackageReference: 3x1 Header; Color: Black; PartNumber: TSW-103-07-G-S; PinCount: 3; ContactFinish: Gold; Cert_CULUS: N; Shrouded: N; ClassName: Header; ComponentLink1URL: http://samtec.com/ftppub/pdf/TSW_TH.PDF; CompType: Header; MountType: TH; Supplier Part Number 1: SAM1029-03-ND; Green_EU RoHS-2: Passed
footprint TSW-103-07-G-S (Samtec 100mil, 1x3, 230 mil above insulator)
pins: 1, 2, 3
3 alternate drawings of the same symbol

## CMP-0075665-2
designator J?, comment TSW-105-07-F-D  (value not drawn)
Header, 2.54mm, 5x2, Gold, Black, TH; Manufacturer: Samtec; Pitch_mm: 2.54; Gender: Male; Cert_CSA: Y; Green_REACh: Passed; Shrouded: N; Green_Lifecycle: Active; Row_Count: 2; ComponentLink1Description: Datasheet URL; RoHS: Y; Supplier Part Number 3: 2025173; Supplier 1: Digi-Key; Cert_UL: Y; Orientation: Vertical; Green_EU RoHS: Passed; PackageReference: Header, 2.54mm, 5x2, TH; Color: Black; PartNumber: TSW-105-07-F-D; PinCount: 10; Supplier Part Number 2: 73P9489; ContactFinish: Gold; Supplier 2: Newark; ClassName: Header; RowSpacing_mm: 2.54; ComponentLink1URL: http://suddendocs.samtec.com/catalog_english/tsw_th.pdf; CompType: Header; MountType: TH; Supplier Part Number 1: SAM8999-ND; Supplier 3: Farnell; Green_EU RoHS-2: Passed
footprint Samtec_TSW-105-07-x-D (Header, 2.54mm, 5x2, TH)
pins: 1, 2, 3, 4, 5, 6, 7, 8, 9, 10
1 alternate drawing of the same symbol

## CMP-0075884-1
designator U?, comment LMK61E2-SIAR
Ultra-Low Jitter Fully Programmable Oscillator, Integrated EEPROM, +/-50ppm, SIA0008B (QFM-8); Manufacturer: Texas Instruments; Alternate PartNumber: LMK61E2-SIAT; SizeAreaWB_mm2: 20.25; SizeArea_mm2: 12.25; SizeZ_mm: 2.0; SizeY_mm: 3.5; U/M: EA; CompType: IC; ComponentLink1Description: Datasheet Link; RoHS: Y; PackageReference: SIA0008B; PartNumber: LMK61E2-SIAR; Publisher: Texas Instruments; PackageDescription: QFM-8; Alternate Manufacturer: Texas Instruments; ComponentLink1URL: http://www.ti.com/lit/ds/symlink/lmk61e2.pdf; LatestRevisionDate: 2017-06-09; MountType: SMT; SizeX_mm: 3.5
footprint SIA0008B (SIP 8-Leads, Body 5x7mm)
pins: 1 OE (in), 2 ADD (in), 3 GND (power), 4 OUTP (out), 5 OUTN (out), 6 VDD (power), 7 SDA (io), 8 SCL (io)
1 alternate drawing of the same symbol

## CMP-0076021-2
designator U?, comment SN65LVDS100
2 Gbps LVDS/LVPECL/CML to LVDS Buffer/Repeater/Translator, DGK0008A (VSSOP-8); PartNumber: SN65LVDS100DGKR; Alternate PartNumber: SN65LVDS100DGK; Manufacturer: Texas Instruments; SizeArea_mm2: 14.7; SizeAreaWB_mm2: 23.6; SizeX_mm: 4.9; SizeY_mm: 3; SizeZ_mm: 1.1; CompType: IC; AEC Category: Q200; AEC Qualified: N; PackageReference: DGK0008A; PackageDescription: VSSOP-8; MountType: SMT; ComponentLink1Description: Datasheet Link; ComponentLink1URL: http://www.ti.com/lit/ds/symlink/sn65lvds100.pdf; RoHS: Y; Alternate Manufacturer: Texas Instruments; Code_JEDEC: MO-187-AA; ComponentLink2Description: Product Folder; ComponentLink2URL: http://www.ti.com/product/sn65lvds100; ComponentLink3Description: Online Datasheet; ComponentLink3URL: http://www.ti.com/product/sn65lvds100/datasheet
footprint DGK0008A_N (TSOP, 8-Leads, Body 3x3mm, Pitch 0.65mm, IPC Medium Density)
footprint DGK0008A_M (TSOP, 8-Leads, Body 3x3mm, Pitch 0.65mm, IPC Low Density)
footprint DGK0008A_L (TSOP, 8-Leads, Body 3x3mm, Pitch 0.65mm, IPC High Density)
pins: 1 NC, 2 A (in), 3 B (in), 4 VBB (power), 5 GND (power), 6 Z (out), 7 Y (out), 8 VCC (power)

## CMP-0076064-3
designator U6_?, comment ISO7741DWR
High-Speed, Low-Power, Robust EMC Quad-Channel Digital Isolator, DW0016B (SOIC-16); Alternate Manufacturer: Texas Instruments; Green_Lifecycle: Active; SizeAreaWB_mm2: 152.52; Green_REACh: Passed; SizeZ_mm: 2.65; SizeX_mm: 10.4; SizeY_mm: 10.3; SizeArea_mm2: 107.12; CompType: IC; AEC Category: Q200; AEC Qualified: N; Rating: Catalog; ComponentLink1URL: http://www.ti.com/lit/ds/symlink/iso7741.pdf; Alternate PartNumber: ISO7741DW; PackageDescription: SOIC-16; RoHS: Y; MountType: SMT; Green_EU RoHS-2: Passed; Manufacturer: Texas Instruments; PackageReference: DW0016B; PartNumber: ISO7741DWR; ComponentLink1Description: Datasheet Link; ComponentLink2Description: Product Folder; ComponentLink2URL: http://www.ti.com/product/iso7741; ComponentLink3Description: Online Datasheet; ComponentLink3URL: http://www.ti.com/product/iso7741/datasheet; Operating Temperature Range: -55 to 125 C
footprint DW0016B_HV (SOIC-16, HV/isolation option)
footprint DW0016B_N (SOIC-16, IPC Medium Density)
footprint DW0016B_M (SOIC-16, IPC Low Density)
footprint DW0016B_L (SOIC-16, IPC High Density)
pins: 1 VCC1 (power) "Power supply, VCC1", 2 GND1 (power) "Ground connection for VCC1", 3 INA (in) "Input, channel A", 4 INB (in) "Input, channel B", 5 INC (in) "Output, channel C", 6 OUTD (hiz) "Output, channel D", 7 EN1 (in) "Output enable", 8 GND1 (power) "Ground connection for VCC1", 9 GND2 (power) "Ground connection for VCC2", 10 EN2 (in) "Output enable", 11 IND (in) "Input, channel D", 12 OUTC (hiz) "Input, channel C", 13 OUTB (hiz) "Output, channel B", 14 OUTA (hiz) "Output, channel A", 15 GND2 (power) "Ground connection for VCC2", 16 VCC2 (power) "Power supply, VCC2"

## CMP-0076076-2
designator U?, comment ISO7841DWW
High-Immunity, 5.7kVRMS Reinforced Quad-Channel 3/1 Digital Isolator, 100Mbps, DWW0016A (SOIC-16); Manufacturer: Texas Instruments; Alternate PartNumber: ISO7841DWWR; SizeAreaWB_mm2: 244.155; SizeArea_mm2: 183.855; SizeZ_mm: 2.65; SizeY_mm: 10.3; CompType: IC; SizeX_mm: 17.85; AEC Category: Q200; AEC Qualified: N; Rating: Catalog; ComponentLink1Description: Datasheet Link; RoHS: Y; PackageReference: DWW0016A; PartNumber: ISO7841DWW; PackageDescription: SOIC-16; Alternate Manufacturer: Texas Instruments; ComponentLink1URL: http://www.ti.com/lit/ds/symlink/iso7841.pdf; MountType: SMT; ComponentLink2Description: Product Folder; ComponentLink2URL: http://www.ti.com/product/iso7841; ComponentLink3Description: Online Datasheet; ComponentLink3URL: http://www.ti.com/product/iso7841/datasheet; Operating Temperature Range: -55 to 125 C
footprint DWW0016A_N (SOP, 16-Leads, Body 10.30x14.00mm, Pitch 1.27mm, IPC Medium Density)
footprint DWW0016A_M (SOP, 16-Leads, Body 10.30x14.00mm, Pitch 1.27mm, IPC Low Density)
footprint DWW0016A_L (SOP, 16-Leads, Body 10.30x14.00mm, Pitch 1.27mm, IPC High Density)
pins: 1 VCC1 (power) "Power supply, VCC1", 2 GND1 (power) "Ground connection for VCC1", 3 INA (in) "Input, channel A", 4 INB (in) "Input, channel B", 5 INC (in) "Output, channel C", 6 OUTD (hiz) "Output, channel D", 7 EN1 (in) "Output enable", 8 GND1 (power) "Ground connection for VCC1", 9 GND2 (power) "Ground connection for VCC2", 10 EN2 (in) "Output enable", 11 IND (in) "Input, channel D", 12 OUTC (hiz) "Input, channel C", 13 OUTB (hiz) "Output, channel B", 14 OUTA (hiz) "Output, channel A", 15 GND2 (power) "Ground connection for VCC2", 16 VCC2 (power) "Power supply, VCC2"

## CMP-0076084-2
designator U?, comment ISO1540QDRQ1
Low-Power Bidirectional I2C Isolators, D0008B (SOIC-8); Manufacturer: Texas Instruments; Alternate PartNumber: ISO1540QDQ1; AEC Qualified: Y; SizeY_mm: 4.9; SizeX_mm: 6.0; AEC Category: Q200; SizeZ_mm: 1.75; CompType: IC; SizeAreaWB_mm2: 55.2; Rating: Automotive; SizeArea_mm2: 29.4; PackageReference: D0008B; ComponentLink3URL: http://www.ti.com/product/iso1540-q1/datasheet; ComponentLink3Description: Online Datasheet; Alternate Manufacturer: Texas Instruments; Operating Temperature Range: -40 to 125 C; ComponentLink1URL: http://www.ti.com/lit/ds/symlink/iso1540-q1.pdf; RoHS: Y; MountType: SMT; PartNumber: ISO1540QDRQ1; ComponentLink2URL: http://www.ti.com/product/iso1540-q1; PackageDescription: SOIC-8; ComponentLink1Description: Datasheet Link; ComponentLink2Description: Product Folder
footprint D0008B_L (SOIC, 8-Leads, Body 4.9x3.9mm, Pitch 1.27mm, IPC High Density)
footprint D0008B_M (SOIC, 8-Leads, Body 4.9x3.9mm, Pitch 1.27mm, IPC Low Density)
footprint D0008B_N (SOIC, 8-Leads, Body 4.9x3.9mm, Pitch 1.27mm, IPC Medium Density)
footprint D0008B_HV (SOIC, 8-Leads, Body 4.9x3.9mm, Pitch 1.27mm, HV / Isolation option)
pins: 1 VCC1 (power), 2 SDA1 (io), 3 SCL1 (io), 4 GND1 (power), 5 GND2 (power), 6 SCL2 (io), 7 SDA2 (io), 8 VCC2 (power)
1 alternate drawing of the same symbol

## CMP-0077181-1
designator FID?, comment Fiducial  (value not drawn)
Fiducial mark.  There is nothing to buy or mount.; CompType: Fiducial; Manufacturer: N/A; MountType: N/A; PackageReference: N/A; PartNumber: N/A; ClassName: FiducialMark; Library Reference: Fiducial
footprint Fiducial10-30
footprint Fiducial15-30
footprint Fiducial10-20
footprint Fiducial20-40
footprint Fiducial6.4-20

## CMP-0077236-1
designator ZZ?, comment These assemblies are ESD sensitive, ESD precautions shall be observed.  (no BOM)
CompType: AssemblyNote; ClassName: AssemblyNote; Publisher: Texas Instruments; LatestRevisionDate: 2017-08-10; Key: AssemblyNote
footprint AssemblyNote (Assembly Note)
text: Assembly Note

## CMP-0077237-1
designator ZZ?, comment These assemblies must be clean and free from flux and all contaminants. Use of no clean flux is not acceptable.  (no BOM)
CompType: AssemblyNote; ClassName: AssemblyNote; Publisher: Texas Instruments; LatestRevisionDate: 2017-08-10; Key: AssemblyNote
footprint AssemblyNote (Assembly Note)
text: Assembly Note

## CMP-0077238-1
designator ZZ?, comment These assemblies must comply with workmanship standards IPC-A-610 Class 2, unless otherwise specified.  (no BOM)
CompType: AssemblyNote; ClassName: AssemblyNote; Publisher: Texas Instruments; LatestRevisionDate: 2017-08-10; Key: AssemblyNote
footprint AssemblyNote (Assembly Note)
text: Assembly Note

## CMP-0077983-1
designator H?, comment AK67421-0.3  (mechanical)
Cable, USB-A to micro USB-B, 0.3 m; Manufacturer: Assman WSW; ComponentLink1URL: http://www.assmann-wsw.com/fileadmin/datasheets/ASS_7091_CA.pdf; Key: AK67421-0.3; CompType: Cable; Supplier 1: Digi-Key; RoHS: Y; Supplier Part Number 1: AE11229-ND; PartNumber: AK67421-0.3; MountType: N/A; ComponentLink1Description: Datasheet Link
text: MECH

## CMP-0078143-2
designator TP?, comment Test Point  (value not drawn)  (no BOM)
TEST POINT.  No entry in BOM.; PackageReference: N/A; CompType: Testpoint; Manufacturer: N/A; PartNumber: N/A; Library Reference: TESTPOINT
footprint TESTPOINT
footprint TP_VIA_018RND008
footprint TP_VIA_060RND040
footprint TP_25MIL-SMT
footprint TP_50MIL-25MILHOLE
footprint TP_60MIL-SMT
footprint TP_VIA_024RND014
footprint TP_50MIL-SMT
footprint TP_60MIL-SMT-155
pins: 1

## CMP-0078143-3
designator TP?, comment TESTPOINT  (no BOM)
TEST POINT.  No entry in BOM.; PackageReference: N/A; CompType: Testpoint; Manufacturer: N/A; PartNumber: N/A; Library Reference: TESTPOINT
footprint TESTPOINT
footprint TP_VIA_018RND008
footprint TP_VIA_060RND040
footprint TP_25MIL-SMT
footprint TP_50MIL-25MILHOLE
footprint TP_60MIL-SMT
footprint TP_VIA_024RND014
footprint TP_50MIL-SMT
footprint TP_60MIL-SMT-155
pins: 1

## CMP-0081177-1
designator U?, comment SN74AXC1T45DBVR
Single-Bit Dual-Supply Bus Transceiver, DBV0006A (SOT-23-6); Alternate Manufacturer: Texas Instruments; SizeAreaWB_mm2: 14.82; SizeZ_mm: 1.45; SizeX_mm: 2.8; SizeY_mm: 2.9; SizeArea_mm2: 8.12; CompType: IC; AEC Qualified: N; AEC Category: Q200; ComponentLink1URL: http://www.ti.com/lit/ds/symlink/sn74axc1t45.pdf; PackageDescription: SOT-23-6; MountType: SMT; ComponentLink2URL: http://www.ti.com/product/sn74axc1t45; ComponentLink3Description: Online Datasheet; ComponentLink2Description: Product Folder; Manufacturer: Texas Instruments; ComponentLink3URL: http://www.ti.com/product/sn74axc1t45/datasheet; PackageReference: DBV0006A; PartNumber: SN74AXC1T45DBVR; ComponentLink1Description: Datasheet Link
footprint DBV0006A_N (SOT23, 6-Leads, Body 2.9x1.6mm, Pitch 0.95mm, Lead Span 2.8mm, IPC Medium Density)
footprint DBV0006A_M (SOT23, 6-Leads, Body 2.9x1.6mm, Pitch 0.95mm, Lead Span 2.8mm, IPC Low Density)
footprint DBV0006A_L (SOT23, 6-Leads, Body 2.9x1.6mm, Pitch 0.95mm, Lead Span 2.8mm, IPC High Density)
pins: 1 VCCA (power), 2 GND (power), 3 A (io), 4 B (io), 5 DIR (in), 6 VCCB (power)

## CMP-0081661-1
designator U?, comment FT4232H-56Q-TRAY
Future Technology Devices International Ltd FT4232H Quad High Speed USB to Multipurpose UART/MPSSE IC, VQFN-56; Manufacturer: FTDI; SizeZ_mm: 1; SizeX_mm: 8; SizeArea_mm2: 64; SizeAreaWB_mm2: 100; ComponentLink1URL: http://www.ftdichip.com/Support/Documents/DataSheets/ICs/DS_FT4232H.pdf; SizeY_mm: 8; Supplier Part Number 2: 895-FT4232H-56Q-TRAY; Supplier 1: Digi-Key; PackageReference: VQFN-56; RoHS: Y; Supplier Part Number 1: 768-1277-ND; PartNumber: FT4232H-56Q-TRAY; MountType: SMT; ComponentLink1Description: Datasheet URL; Supplier 2: Mouser
footprint VQFN-56 (VQFN, 56-Leads, Body 8x8mm, Pitch 0.5mm)
pins: 1 EECS (io), 2 VCORE (power), 3 OSCI, 4 OSCO, 5 VPHY (power), 6 REF (in), 7 DM (in), 8 DP (in), 9 VPLL (power), 10 TEST (in), 11 ~{RESET} (in), 12 ADBUS0 (io), 13 ADBUS1 (io), 14 ADBUS2 (io), 15 ADBUS3 (io), 16 VCCIO (power), 17 ADBUS4 (io), 18 ADBUS5 (io), 19 ADBUS6 (io), 20 ADBUS7 (io), 21 GND (power), 22 BDBUS0 (io), 23 BDBUS1 (io), 24 BDBUS2 (io), 25 BDBUS3 (io), 26 BDBUS4 (io), 27 BDBUS5 (io), 28 BDBUS6 (io), 29 BDBUS7 (io), 30 ~{SUSPEND} (out), 31 VCORE (power), 32 CDBUS0 (io), 33 CDBUS1 (io), 34 CDBUS2 (io), 35 CDBUS3 (io), 36 VCCIO (power), 37 CDBUS4 (io), 38 CDBUS5 (io), 39 CDBUS6 (io), 40 CDBUS7 (io), 41 GND (power), 42 DDBUS0 (io), 43 VREGOUT (power), 44 VREGIN (power), 45 GND (power), 46 DDBUS1 (io), 47 DDBUS2 (io), 48 DDBUS3 (io), 49 DDBUS4 (io), 50 VCCIO (power), 51 DDBUS5 (io), 52 DDBUS6 (io), 53 DDBUS7 (io), 54 ~{PWREN} (out), 55 EEDATA (io), 56 EECLK (out), 57 PAD

## CMP-0082118-3
designator D?, comment UDZLVTE-17110  value 110V
Diode, Zener, 110 V, 200 mW, SOD-323F; Manufacturer: Rohm; SizeAreaWB_mm2: 7.875; SizeArea_mm2: 3.125; AEC Qualified: N; AEC Category: Q101; SizeZ_mm: 0.8; Power_W: 200mW; SizeY_mm: 1.25; Value1: 0.2W; SizeX_mm: 2.5; ComponentLink1Description: Datasheet link; RoHS: Y; PackageReference: SOD-323F; PartNumber: UDZLVTE-17110; Vz_V: 110V; ComponentLink1URL: http://rohmfs.rohm.com/en/products/databook/datasheet/discrete/diode/zener/udzlvte-17110-e.pdf; CompType: Zener; MountType: SMT
footprint SOD-323F (NXP recommended land pattern)
pins: 1 K, 2 A

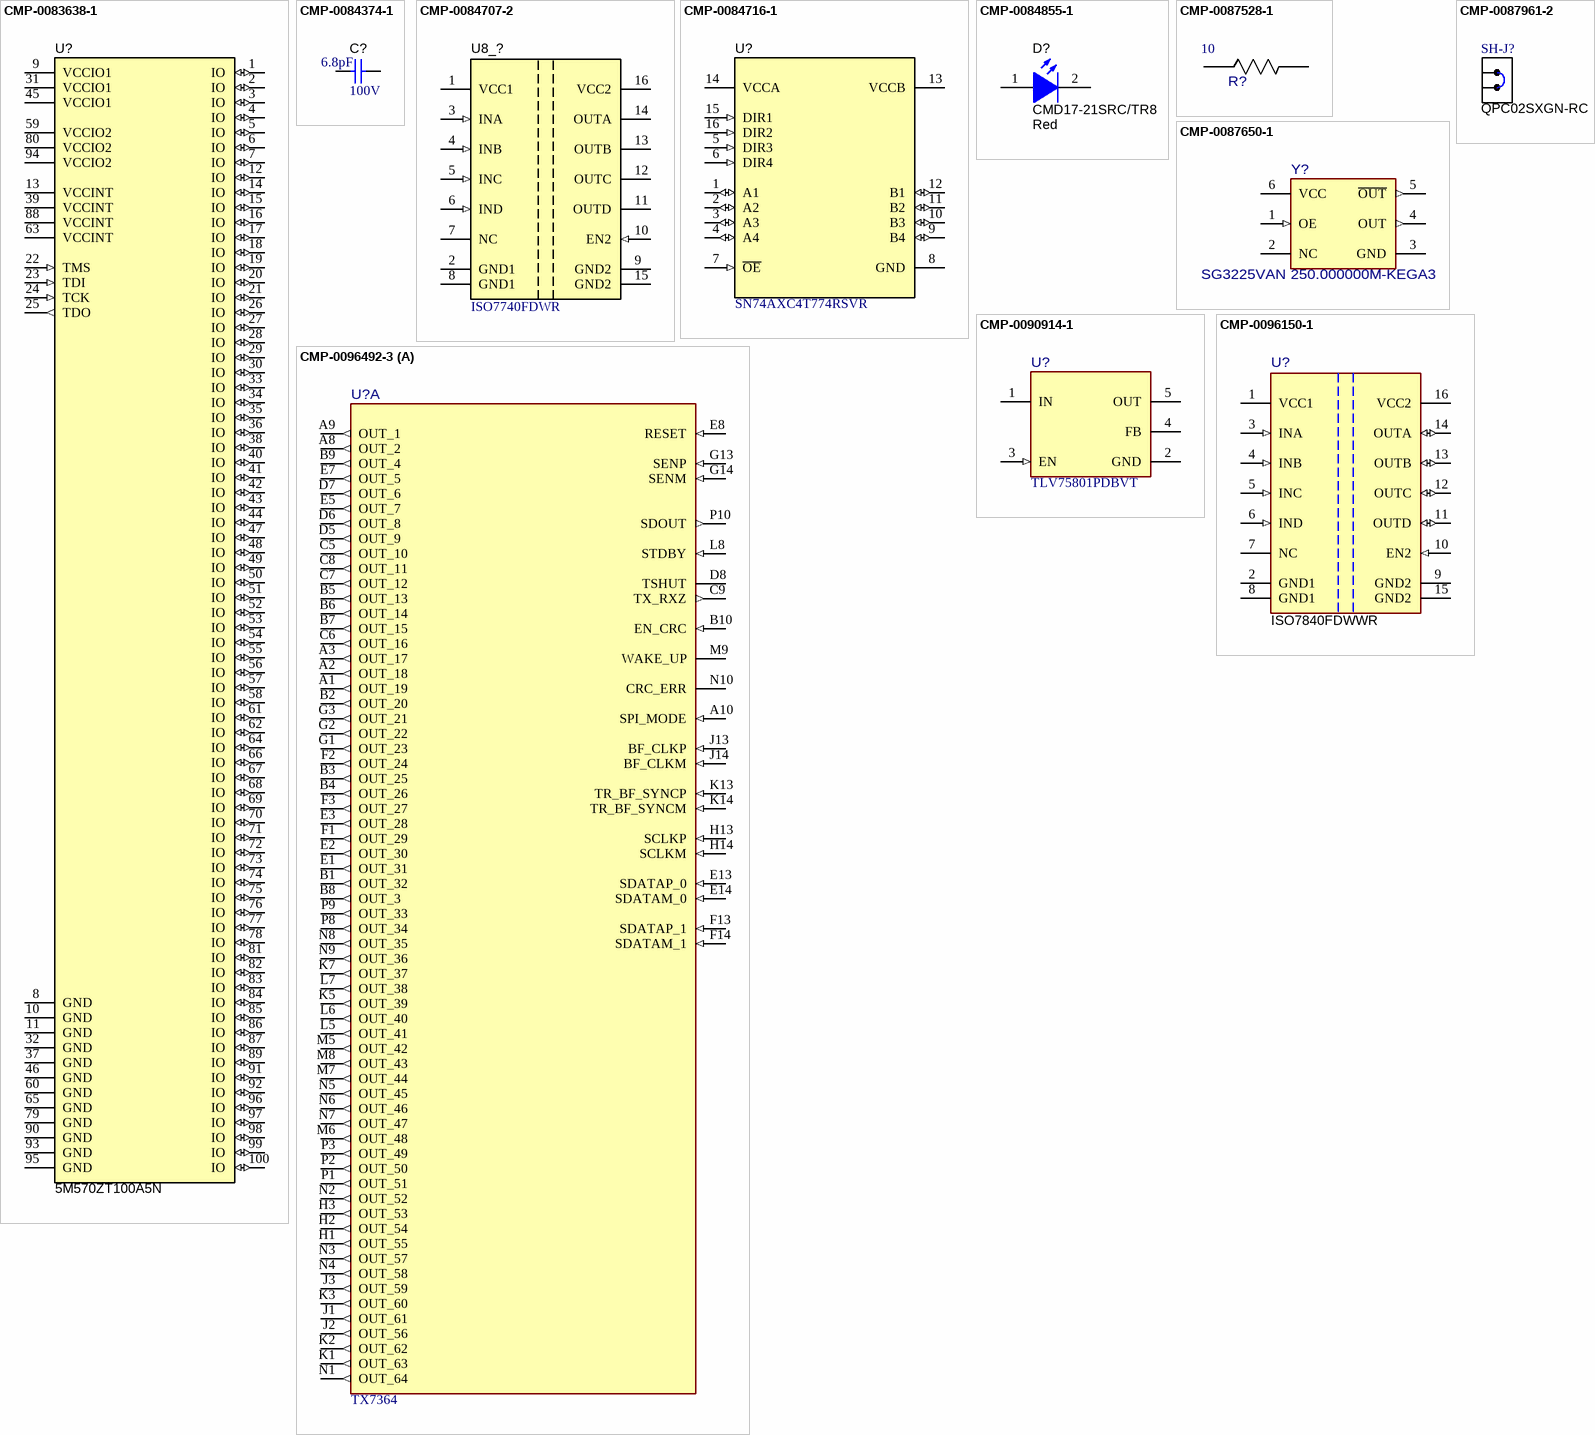
[diagram p3: symbols CMP-0083638-1 to CMP-0096492-3]

## CMP-0083638-1
designator U?, comment 5M570ZT100A5N
IC CPLD 440MC, TQFP-100; Manufacturer: Altera; SizeZ_mm: 1.2; SizeX_mm: 16; SizeArea_mm2: 256; SizeAreaWB_mm2: 324; ComponentLink1URL: https://www.altera.com/content/dam/altera-www/global/en_US/pdfs/literature/hb/max-v/mv51003.pdf; SizeY_mm: 16; Supplier Part Number 2: 989-5M570ZT100A5N; Supplier 1: Digi-Key; PackageReference: 14x14mm; RoHS: Y; Supplier Part Number 1: 544-3181-ND; PartNumber: 5M570ZT100A5N; MountType: SMT; ComponentLink1Description: Datasheet URL; Supplier 2: Mouser
footprint TQFP100_14x14MM (TQFP, 100-Leads, Body 14x14mm, Pitch 0.50mm)
pins: 1 IO (io), 2 IO (io), 3 IO (io), 4 IO (io), 5 IO (io), 6 IO (io), 7 IO (io), 8 GND (power), 9 VCCIO1 (power), 10 GND (power), 11 GND (power), 12 IO (io), 13 VCCINT (power), 14 IO (io), 15 IO (io), 16 IO (io), 17 IO (io), 18 IO (io), 19 IO (io), 20 IO (io), 21 IO (io), 22 TMS (in), 23 TDI (in), 24 TCK (in), 25 TDO (out), 26 IO (io), 27 IO (io), 28 IO (io), 29 IO (io), 30 IO (io), 31 VCCIO1 (power), 32 GND (power), 33 IO (io), 34 IO (io), 35 IO (io), 36 IO (io), 37 GND (power), 38 IO (io), 39 VCCINT (power), 40 IO (io), 41 IO (io), 42 IO (io), 43 IO (io), 44 IO (io), 45 VCCIO1 (power), 46 GND (power), 47 IO (io), 48 IO (io), 49 IO (io), 50 IO (io), 51 IO (io), 52 IO (io), 53 IO (io), 54 IO (io), 55 IO (io), 56 IO (io), 57 IO (io), 58 IO (io), 59 VCCIO2 (power), 60 GND (power), 61 IO (io), 62 IO (io), 63 VCCINT (power), 64 IO (io), 65 GND (power), 66 IO (io), 67 IO (io), 68 IO (io), 69 IO (io), 70 IO (io), 71 IO (io), 72 IO (io), 73 IO (io), 74 IO (io), 75 IO (io), 76 IO (io), 77 IO (io), 78 IO (io), 79 GND (power), 80 VCCIO2 (power), 81 IO (io), 82 IO (io), 83 IO (io), 84 IO (io), 85 IO (io), 86 IO (io), 87 IO (io), 88 VCCINT (power), 89 IO (io), 90 GND (power), 91 IO (io), 92 IO (io), 93 GND (power), 94 VCCIO2 (power), 95 GND (power), 96 IO (io), 97 IO (io), 98 IO (io), 99 IO (io), 100 IO (io)

## CMP-0084374-1
designator C?, comment VDC_V: 100V  ValueDisplayed: 6.8pF  (hidden comment: CC0603CRNPO0BN6R8)
CAP, CERM, 6.8 pF, 100 V,+/- 3.7%, C0G/NP0, 0603; Manufacturer: Yageo; TaMin_C: -55°C; Value: 6.8pF; SizeArea_mm2: 1.28; Cap_Case: 0603; Polarized: N; CompType: Capacitor; TaMax_C: 125°C; SizeZ_mm: 1; U/M: EA; SizeY_mm: 0.8; SizeAreaWB_mm2: 4.68; SizeX_mm: 1.6; AEC Category: Q200; MountType: SMT; PartNumber: CC0603CRNPO0BN6R8; TempCo: C0G/NP0; AEC Grade: N/A; Tolerance_%: 3.7%; RoHS: Y; ComponentLink1Description: Datasheet link; Technology: Ceramic; ComponentLink1URL: http://www.yageo.com/documents/recent/UPY-NP0X7R_MV_100-to-630V_21.pdf; Cap_F: 6.8pF; AEC Qualified: N; PackageReference: 0603; Value2: 100V
footprint 0603 (0603 from SM-752 data)
footprint 0603M (0603 from SM-752 data)
footprint 0603L (0603 from SM-752 data)
footprint 0603_HV (Ernesto recommended land pattern.  26 mil between pads.)
footprint 0603S
pins: 1, 2

## CMP-0084707-2
designator U8_?, comment ISO7740FDWR
High-Speed, Low-Power, Robust EMC Quad-Channel Digital Isolator, DW0016B (SOIC-16); Alternate Manufacturer: Texas Instruments; SizeX_mm: 10.4; CompType: IC; SizeArea_mm2: 107.12; Rating: Catalog; SizeY_mm: 10.3; AEC Category: Q200; SizeZ_mm: 2.65; AEC Qualified: N; SizeAreaWB_mm2: 152.52; Alternate PartNumber: ISO7740FDW; PartNumber: ISO7740FDWR; PackageReference: DW0016B; PackageDescription: SOIC-16; ComponentLink3Description: Online Datasheet; Operating Temperature Range: -55 to 125 C; Manufacturer: Texas Instruments; ComponentLink2Description: Product Folder; ComponentLink3URL: http://www.ti.com/product/iso7740/datasheet; ComponentLink1Description: Datasheet Link; ComponentLink1URL: http://www.ti.com/lit/ds/symlink/iso7740.pdf; MountType: SMT; ComponentLink2URL: http://www.ti.com/product/iso7740; RoHS: Y
footprint DW0016B_HV (SOIC-16, HV/isolation option)
footprint DW0016B_N (SOIC-16, IPC Medium Density)
footprint DW0016B_M (SOIC-16, IPC Low Density)
footprint DW0016B_L (SOIC-16, IPC High Density)
pins: 1 VCC1 (power) "Power supply, VCC1", 2 GND1 (power) "Ground connection for VCC1", 3 INA (in) "Input, channel A", 4 INB (in) "Input, channel B", 5 INC (in) "Output, channel C", 6 IND (in) "Output, channel D", 7 NC "Output enable", 8 GND1 (power) "Ground connection for VCC1", 9 GND2 (power) "Ground connection for VCC2", 10 EN2 (in) "Output enable", 11 OUTD (hiz) "Input, channel D", 12 OUTC (hiz) "Input, channel C", 13 OUTB (hiz) "Output, channel B", 14 OUTA (hiz) "Output, channel A", 15 GND2 (power) "Ground connection for VCC2", 16 VCC2 (power) "Power supply, VCC2"